# Altium footprint library PcbLib1.PcbLib: 20 footprints (part 1 of 2)
Each footprint in its own frame and in the unit in brackets; x right, y up, seen from the top. Pads: shape width x height; smd on the part's side, far side on the other; paste and mask are expansions set on the pad; w line width, h text height; cw(c..) or ccw(c..) is an arc to the next point about the centre after c.
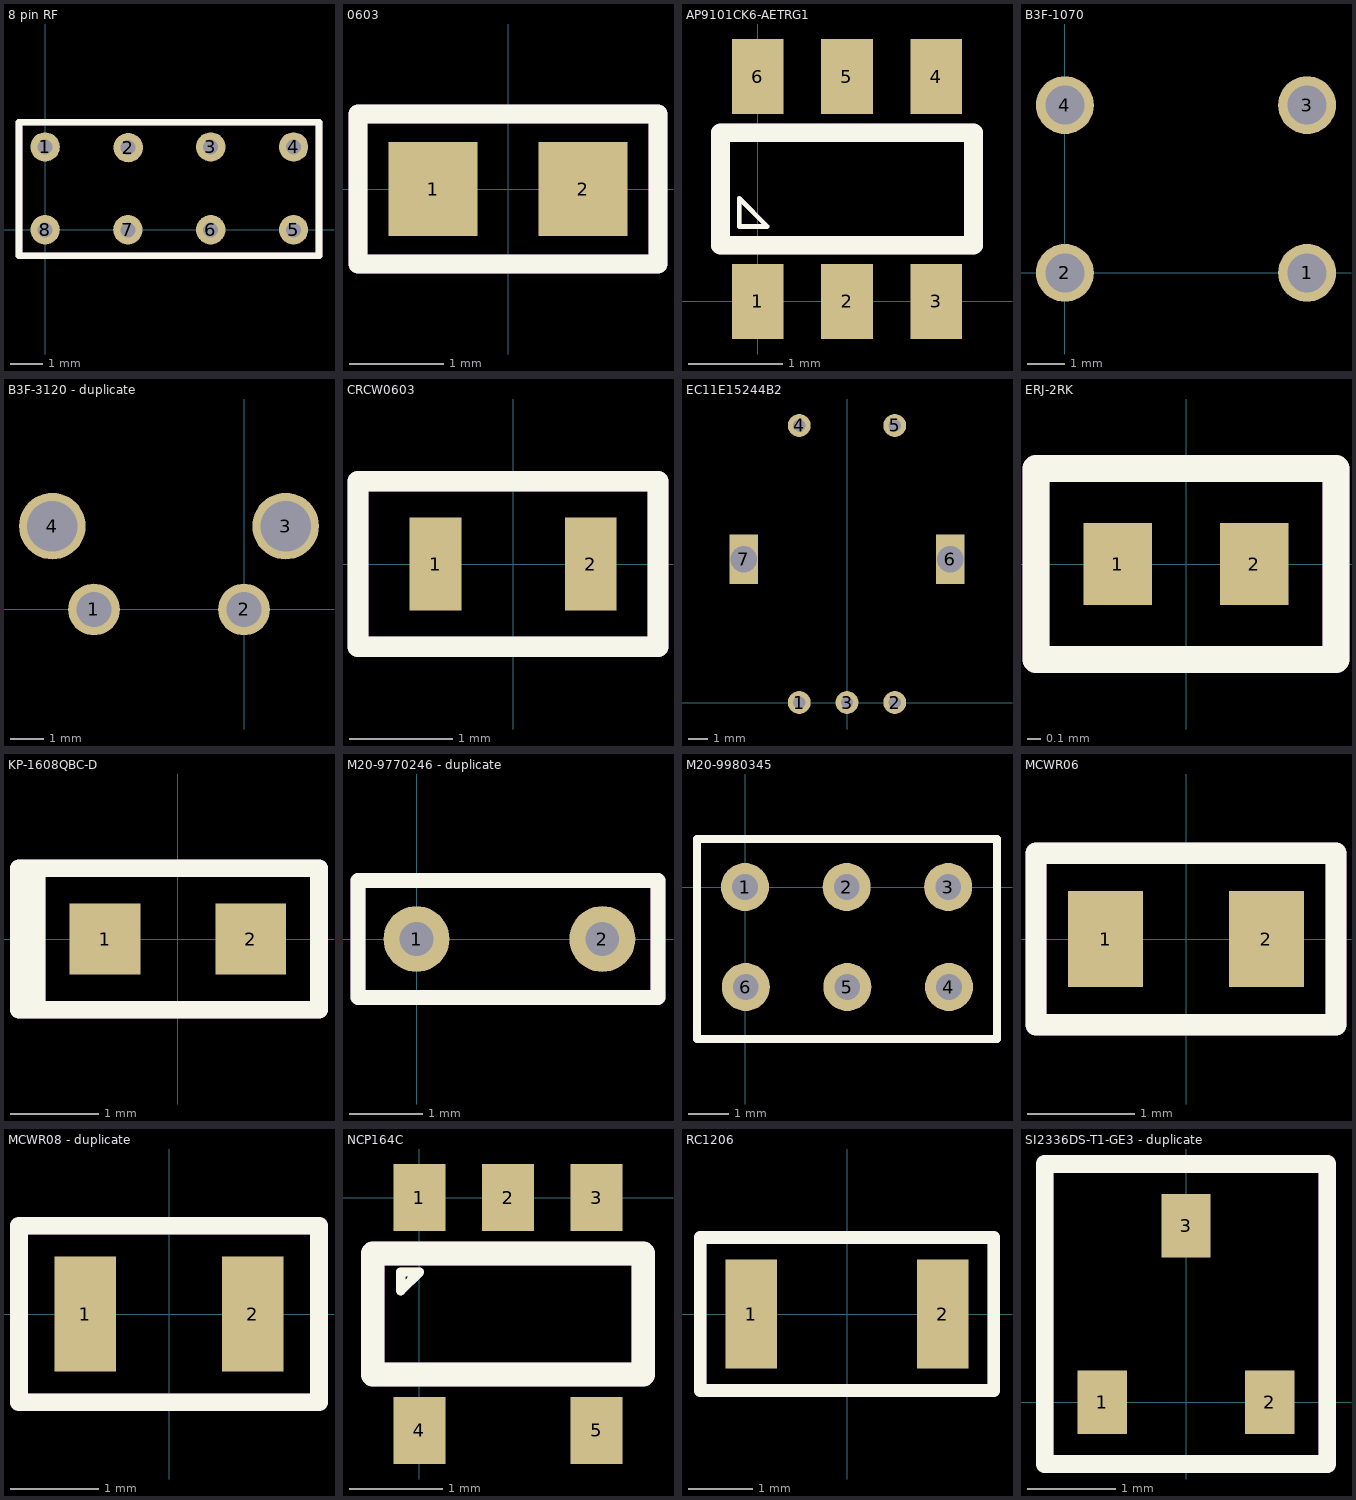
[diagram p0: the footprints below, top view; thin cyan lines are the x and y axes]

## 8 pin RF [mm]
pads (8):
  round 0.9 hole 0.46: 1(0,2.54) 2(2.55,2.52) 3(5.08,2.54) 4(7.62,2.54) 5(7.62,0) 6(5.08,0) 7(2.54,0) 8(0,0)
Top Overlay:
  lines w0.2: -0.8,-0.8 -0.8,3.3 8.4,3.3 8.4,-0.8 -0.8,-0.8
Mechanical 29:
  lines w0.2: -0.8,-0.8 -0.8,3.3 8.4,3.3 8.4,-0.8 -0.8,-0.8
  text "'.Designator'" at 0.3,0.933 h0.7

## 0603 [mm]
pads (2):
  rect 0.95x1 smd: 1(-0.8,0) 2(0.8,0)
Top Overlay:
  lines w0.2: -1.6,-0.8 -1.6,0.8 1.6,0.8 1.6,-0.8 -1.6,-0.8
Mechanical 29:
  lines w0.2: -1.6,-0.8 -1.6,0.8 1.6,0.8 1.6,-0.8 -1.6,-0.8
  text "'.Designator'" at -1.3,-0.233 h0.5

## AP9101CK6-AETRG1 [mm]
pads (6):
  rect 0.55x0.8 smd: 1(0,0) 2(0.95,0) 3(1.9,0) 4(1.9,2.4) 5(0.95,2.4) 6(0,2.4)
Top Overlay:
  lines w0.05: -0.2,0.8 0.1,0.8 -0.2,1.1 -0.2,0.8
  lines w0.2: -0.4,0.6 2.3,0.6 2.3,1.8 -0.4,1.8 -0.4,0.6
Mechanical 29:
  lines w0.05: -0.2,0.8 0.1,0.8 -0.2,1.1 -0.2,0.8
  lines w0.2: -0.4,0.6 2.3,0.6 2.3,1.8 -0.4,1.8 -0.4,0.6
  text "'.Designator'" at -0.02,1.08 h0.3

## B3F-1070 [mm]
pads (4):
  round 1.55 hole 1.05: 1(6.5,0) 2(0,0) 3(6.5,4.5) 4(0,4.5)
Mechanical 29:
  text "'.Designator'" at 0.457,1.803 h1.52

## B3F-3120 - duplicate [mm]
pads (4):
  round 1.55 hole 1.05: 1(-4.5,0) 2(0,0)
  round 2 hole 1.52: 3(1.25,2.5) 4(-5.75,2.5)
Mechanical 29:
  text "'.Designator'" at -4.928,1.295 h1.52

## CRCW0603 [mm]
pads (2):
  rect 0.5x0.9 smd: 1(-0.75,0) 2(0.75,0)
Top Overlay:
  lines w0.2: -1.5,-0.8 1.4,-0.8 1.4,0.8 -1.5,0.8 -1.5,-0.8
Mechanical 29:
  lines w0.2: -1.5,-0.8 1.4,-0.8 1.4,0.8 -1.5,0.8 -1.5,-0.8
  text "'.Designator'" at -1.2,-0.267 h0.7

## EC11E15244B2 [mm]
pads (7):
  round 1.2 hole 0.64: 1(-2.5,0) 2(2.5,0) 3(0,0) 4(-2.5,14.5) 5(2.5,14.5)
  rect 1.5x2.6 hole 1.4 square: 6(5.4,7.5) 7(-5.4,7.5)
Mechanical 29:
  text "'.Designator'" at -3.9,7.333 h0.7

## ERJ-2RK [mm]
pads (2):
  rect 0.5x0.6 smd: 1(-0.5,0) 2(0.5,0)
Top Overlay:
  lines w0.2: -1.1,-0.7 -1.1,0.7 1.1,0.7 1.1,-0.7 -1.1,-0.7
Mechanical 29:
  lines w0.2: -1.1,-0.7 -1.1,0.7 1.1,0.7 1.1,-0.7 -1.1,-0.7
  text "'.Designator'" at -0.8,-0.233 h0.5

## KP-1608QBC-D [mm]
pads (2):
  rect 0.8x0.8 smd: 1(-0.825,0) 2(0.825,0)
Top Overlay:
  rectangle: -1.8,-0.8 -1.5,0.8
  lines w0.2: -1.8,-0.8 -1.8,0.8 1.6,0.8 1.6,-0.8 -1.8,-0.8
Mechanical 29:
  rectangle: -1.8,-0.8 -1.5,0.8
  lines w0.2: -1.8,-0.8 -1.8,0.8 1.6,0.8 1.6,-0.8 -1.8,-0.8
  text "'.Designator'" at -1.3,-0.267 h0.7

## M20-9770246 - duplicate [mm]
pads (2):
  round 0.9 hole 0.46: 1(0,0) 2(2.54,0)
Top Overlay:
  lines w0.2: -0.8,-0.8 -0.8,0.8 3.3,0.8 3.3,-0.8 -0.8,-0.8
Mechanical 29:
  lines w0.2: -0.8,-0.8 -0.8,0.8 3.3,0.8 3.3,-0.8 -0.8,-0.8
  text "'.Designator'" at -0.6,-0.267 h0.7

## M20-9980345 [mm]
pads (6):
  round 1.2 hole 0.64: 1(0,0) 2(2.54,0) 3(5.08,0) 4(5.1,-2.5) 5(2.56,-2.5) 6(0.02,-2.5)
Top Overlay:
  lines w0.2: -1.2,-3.8 -1.2,1.2 6.3,1.2 6.3,-3.8 -1.2,-3.8
Mechanical 29:
  lines w0.2: -1.2,-3.8 -1.2,1.2 6.3,1.2 6.3,-3.8 -1.2,-3.8
  text "'.Designator'" at -0.9,-1.567 h0.7

## MCWR06 [mm]
pads (2):
  rect 0.7x0.9 smd: 1(-0.75,0) 2(0.75,0)
Top Overlay:
  lines w0.2: -1.4,-0.8 1.4,-0.8 1.4,0.8 -1.4,0.8 -1.4,-0.8
Mechanical 29:
  lines w0.2: -1.4,-0.8 1.4,-0.8 1.4,0.8 -1.4,0.8 -1.4,-0.8
  text "'.Designator'" at -1.1,-0.267 h0.7

## MCWR08 - duplicate [mm]
pads (2):
  rect 0.7x1.3 smd: 1(-0.95,0) 2(0.95,0)
Top Overlay:
  lines w0.2: -1.7,-1 -1.7,1 1.7,1 1.7,-1 -1.7,-1
Mechanical 29:
  lines w0.2: -1.7,-1 -1.7,1 1.7,1 1.7,-1 -1.7,-1
  text "'.Designator'" at -1.3,-0.267 h0.7

## NCP164C [mm] "LDO"
pads (5):
  rect 0.56x0.72 smd: 1(0,0) 2(0.95,0) 3(1.9,0) 4(0,-2.5) 5(1.9,-2.5)
Top Overlay:
  lines w0.1: -0.2,-0.8 0,-0.8 ; -0.2,-0.8 0,-0.8 ; -0.2,-0.8 -0.2,-1 0,-0.8
  lines w0.254: -0.5,-1.9 2.4,-1.9 2.4,-0.6 -0.5,-0.6 -0.5,-1.9
Mechanical 29:
  lines w0.1: -0.2,-0.8 0,-0.8 ; -0.2,-0.8 0,-0.8 ; -0.2,-0.8 -0.2,-1 0,-0.8
  lines w0.254: -0.5,-1.9 2.4,-1.9 2.4,-0.6 -0.5,-0.6 -0.5,-1.9
  text "'.Designator'" at 0.1,-1.433 h0.5

## RC1206 [mm]
pads (2):
  rect 0.8x1.7 smd: 1(-1.5,0) 2(1.5,0)
Top Overlay:
  lines w0.2: -2.3,-1.2 2.3,-1.2 2.3,1.2 -2.3,1.2 -2.3,-1.2
Mechanical 29:
  lines w0.2: -2.3,-1.2 2.3,-1.2 2.3,1.2 -2.3,1.2 -2.3,-1.2
  text "'.Designator'" at -1.9,-0.267 h0.7

## SI2336DS-T1-GE3 - duplicate [mm]
pads (3):
  rect 0.56x0.72 smd: 1(-0.95,0) 2(0.95,0) 3(0,2)
Top Overlay:
  lines w0.2: -1.6,-0.7 -1.6,2.7 1.6,2.7 1.6,-0.7 -1.6,-0.7
Mechanical 29:
  lines w0.2: -1.6,-0.7 -1.6,2.7 1.6,2.7 1.6,-0.7 -1.6,-0.7
  text "'.Designator'" at -1.4,0.333 h0.7